# Altium footprint library UWRT_Footprint_Library_2020.PcbLib: 80 footprints (part 5 of 5)
Each footprint in its own frame and in the unit in brackets; x right, y up, seen from the top. Pads: shape width x height; smd on the part's side, far side on the other; paste and mask are expansions set on the pad; w line width, h text height; cw(c..) or ccw(c..) is an arc to the next point about the centre after c.
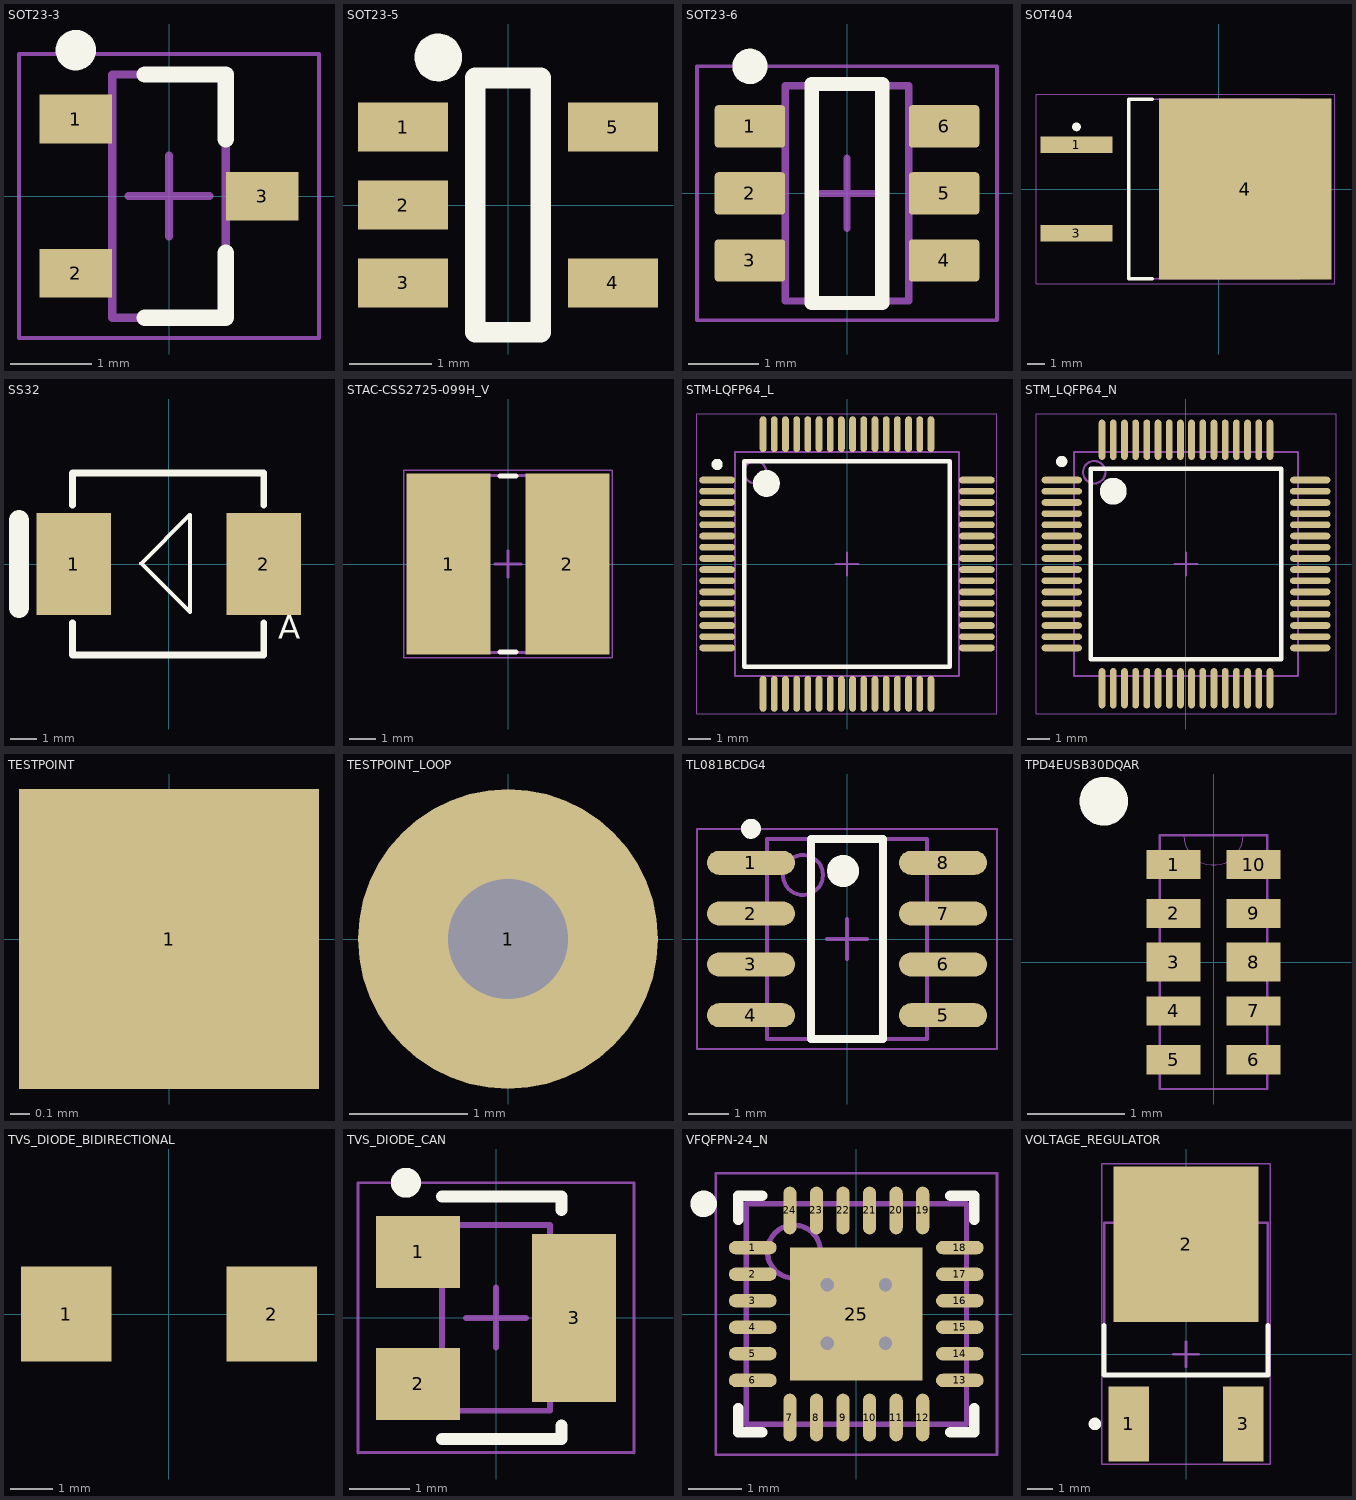
[diagram p4: the footprints below, top view; thin cyan lines are the x and y axes]

## SOT23-3 [mm] "SOT23, 3-Leads, Body 2.90x2.30mm, Pitch 0.95mm, IPC Medium Density"
height 1.1
pads (3):
  rect 0.9x0.6 smd: 1(-1.15,0.95) 2(-1.15,-0.95) 3(1.15,0)
Top Overlay:
  circle w0.25: c-1.15,1.8 r0.125
  lines w0.2: -0.3,-1.5 0.7,-1.5 0.7,-0.7 ; -0.3,1.5 0.7,1.5 0.7,0.7
Mechanical 13:
  lines w0.1: -0.7,-1.5 0.7,-1.5 0.7,1.5 -0.7,1.5 -0.7,-1.5
Mechanical 15:
  lines w0.05: -1.85,-1.75 1.85,-1.75 1.85,1.75 -1.85,1.75 -1.85,-1.75
  lines w0.1: -0.5,0 0.5,0 ; 0,-0.5 0,0.5
3D body "SOT95P230X110-3N.step": height 1.1, standoff 0, extent -1.3,-1.5 1.3,1.5

## SOT23-5 [mm]
pads (5):
  rect 1.1x0.6 smd: 1(-1.279,0.95) 2(-1.279,0) 3(-1.279,-0.95) 4(1.279,-0.95) 5(1.279,0.95)
Top Overlay:
  circle w0.3: c-0.85,1.8 r0.141
  lines w0.254: -0.4,-1.55 -0.4,1.55 0.4,1.55 0.4,-1.55 -0.4,-1.55
3D body "SN74AHC1G02DBVT.stp": height 1.2, standoff 0, extent -1.4,-1.45 1.4,1.45

## SOT23-6 [mm] "SOT23, 6-Leads, Body 3.05x1.75mm, Pitch 0.95mm, IPC Medium Density"
height 1.1
pads (6):
  rrect17% 1x0.6 smd: 1(-1.375,0.95) 2(-1.375,0) 3(-1.375,-0.95) 4(1.375,-0.95) 5(1.375,0) 6(1.375,0.95)
Top Overlay:
  circle w0.25: c-1.375,1.8 r0.125
  lines w0.2: -0.5,-1.55 0.5,-1.55 0.5,1.55 -0.5,1.55 -0.5,-1.55
Mechanical 13:
  lines w0.1: -0.875,-1.525 -0.875,1.525 0.875,1.525 0.875,-1.525 -0.875,-1.525
Mechanical 15:
  lines w0.05: -2.125,-1.8 -2.125,1.8 2.125,1.8 2.125,-1.8 -2.125,-1.8
  lines w0.1: -0.5,0 0.5,0 ; 0,-0.5 0,0.5
3D body "DDC0006A.stp": height 0.9, standoff -0.02, extent -1.434,-1.485 1.434,1.485

## SOT404 [mm]
pads (3):
  rect 4.15x0.95 smd: 1(-8.155,2.54) 3(-8.155,-2.54)
  rect 9.9x10.4 smd: 4(1.545,0)
Top Overlay:
  circle w0.25: c-8.155,3.565 r0.125
  lines w0.2: -3.805,-5.15 -5.155,-5.15 -5.155,5.15 -3.805,5.15
Mechanical 13:
  lines w0.1: -5.155,-5.15 4.645,-5.15 4.645,5.15 -5.155,5.15 -5.155,-5.15
Mechanical 15:
  lines w0.05: -10.48,-5.45 6.67,-5.45 6.67,5.45 -10.48,5.45 -10.48,-5.45
  lines w0.1: -2.405,0 -1.405,0 ; -1.905,-0.5 -1.905,0.5
3D body: height 4.5, standoff 0, extent -5.155,-5.15 4.645,5.15

## SS32 [mm] "Schottky Diode"
pads (2):
  rect 2.794x3.81 smd: 1(-3.555,0) 2(3.555,0)
Top Overlay:
  lines w0.154: 0.783,-1.783 -1.025,0.025 0.783,1.833 ; 0.8,-1.8 0.8,1.83
  lines w0.254: -3.6,-2.2 -3.6,-3.4 3.555,-3.4 3.555,-2.2 ; -3.6,2.2 -3.6,3.4 3.555,3.4 3.555,2.2
  lines w0.754: -5.6,-1.65 -5.6,1.65
  text "A" at 4.1,-3.1 h1.52
Mechanical 1:
  region: -5.25,-1.65
  region: -5.25,3
3D body: height 0.25, standoff 0, extent -3.75,3.15 -3.75,3.15
3D body: height 2.41, standoff 0, extent -3.6,-3.4 3.555,3.4

## STAC-CSS2725-099H_V [mm] "Chip Resistor, 2-Leads, Body 7.06x6.7mm"
height 1.24
pads (2):
  rect 3.18x6.86 smd: 1(-2.25,0) 2(2.25,0)
Top Overlay:
  lines w0.2: -0.3,-3.33 0.3,-3.33 ; -0.3,3.33 0.3,3.33
Mechanical 13:
  lines w0.1: -3.53,-3.35 3.53,-3.35 3.53,3.35 -3.53,3.35 -3.53,-3.35
Mechanical 15:
  lines w0.05: -3.95,-3.55 3.95,-3.55 3.95,3.55 -3.95,3.55 -3.95,-3.55
  lines w0.1: -0.5,0 0.5,0 ; 0,-0.5 0,0.5
3D body "RESC6865X12L.step": height 1.24, standoff 0, extent -3.53,-3.35 3.53,3.35

## STM-LQFP64_L [mm] "QFP, 64-Leads, Body 10x10mm, Pitch 0.5mm, IPC High Density"
height 1.6
pads (64):
  oval 1.6x0.3 smd: 1(-5.8,3.75) 2(-5.8,3.25) 3(-5.8,2.75) 4(-5.8,2.25) 5(-5.8,1.75) 6(-5.8,1.25) 7(-5.8,0.75) 8(-5.8,0.25) 9(-5.8,-0.25) 10(-5.8,-0.75) 11(-5.8,-1.25) 12(-5.8,-1.75) 13(-5.8,-2.25) 14(-5.8,-2.75) 15(-5.8,-3.25) 16(-5.8,-3.75) 33(5.8,-3.75) 34(5.8,-3.25) 35(5.8,-2.75) 36(5.8,-2.25) 37(5.8,-1.75) 38(5.8,-1.25) 39(5.8,-0.75) 40(5.8,-0.25) 41(5.8,0.25) 42(5.8,0.75) 43(5.8,1.25) 44(5.8,1.75) 45(5.8,2.25) 46(5.8,2.75) 47(5.8,3.25) 48(5.8,3.75)
  oval 0.3x1.6 smd: 17(-3.75,-5.8) 18(-3.25,-5.8) 19(-2.75,-5.8) 20(-2.25,-5.8) 21(-1.75,-5.8) 22(-1.25,-5.8) 23(-0.75,-5.8) 24(-0.25,-5.8) 25(0.25,-5.8) 26(0.75,-5.8) 27(1.25,-5.8) 28(1.75,-5.8) 29(2.25,-5.8) 30(2.75,-5.8) 31(3.25,-5.8) 32(3.75,-5.8) 49(3.75,5.8) 50(3.25,5.8) 51(2.75,5.8) 52(2.25,5.8) 53(1.75,5.8) 54(1.25,5.8) 55(0.75,5.8) 56(0.25,5.8) 57(-0.25,5.8) 58(-0.75,5.8) 59(-1.25,5.8) 60(-1.75,5.8) 61(-2.25,5.8) 62(-2.75,5.8) 63(-3.25,5.8) 64(-3.75,5.8)
Top Overlay:
  circle w0.6: c-3.6,3.6 r0.3
  circle w0.25: c-5.8,4.45 r0.125
  lines w0.2: -4.6,-4.6 4.6,-4.6 4.6,4.6 -4.6,4.6 -4.6,-4.6
Mechanical 13:
  circle w0.1: c-4.1,4.1 r0.5
  lines w0.1: -5,-5 5,-5 5,5 -5,5 -5,-5
Mechanical 15:
  lines w0.05: -6.7,-6.7 6.7,-6.7 6.7,6.7 -6.7,6.7 -6.7,-6.7
  lines w0.1: -0.5,0 0.5,0 ; 0,-0.5 0,0.5
3D body: height 1.6, standoff 0.05, extent -5,-5 5,5

## STM_LQFP64_N [mm] "Thin QFP, 64-Leads, Body 10x10mm, Pitch 0.5mm, IPC Medium Density"
height 1.6
pads (64):
  oval 1.8x0.3 smd mask+0.05: 1(-5.55,3.75) 2(-5.55,3.25) 3(-5.55,2.75) 4(-5.55,2.25) 5(-5.55,1.75) 6(-5.55,1.25) 7(-5.55,0.75) 8(-5.55,0.25) 9(-5.55,-0.25) 10(-5.55,-0.75) 11(-5.55,-1.25) 12(-5.55,-1.75) 13(-5.55,-2.25) 14(-5.55,-2.75) 15(-5.55,-3.25) 16(-5.55,-3.75) 33(5.55,-3.75) 34(5.55,-3.25) 35(5.55,-2.75) 36(5.55,-2.25) 37(5.55,-1.75) 38(5.55,-1.25) 39(5.55,-0.75) 40(5.55,-0.25) 41(5.55,0.25) 42(5.55,0.75) 43(5.55,1.25) 44(5.55,1.75) 45(5.55,2.25) 46(5.55,2.75) 47(5.55,3.25) 48(5.55,3.75)
  oval 0.3x1.8 smd mask+0.05: 17(-3.75,-5.55) 18(-3.25,-5.55) 19(-2.75,-5.55) 20(-2.25,-5.55) 21(-1.75,-5.55) 22(-1.25,-5.55) 23(-0.75,-5.55) 24(-0.25,-5.55) 25(0.25,-5.55) 26(0.75,-5.55) 27(1.25,-5.55) 28(1.75,-5.55) 29(2.25,-5.55) 30(2.75,-5.55) 31(3.25,-5.55) 32(3.75,-5.55) 49(3.75,5.55) 50(3.25,5.55) 51(2.75,5.55) 52(2.25,5.55) 53(1.75,5.55) 54(1.25,5.55) 55(0.75,5.55) 56(0.25,5.55) 57(-0.25,5.55) 58(-0.75,5.55) 59(-1.25,5.55) 60(-1.75,5.55) 61(-2.25,5.55) 62(-2.75,5.55) 63(-3.25,5.55) 64(-3.75,5.55)
Top Overlay:
  circle w0.25: c-5.55,4.577 r0.125
  circle w0.6: c-3.25,3.25 r0.3
  lines w0.2: -4.25,-4.25 -4.25,4.25 4.25,4.25 4.25,-4.25 -4.25,-4.25
Mechanical 13:
  circle w0.1: c-4.1,4.1 r0.5
  lines w0.1: -5,-5 -5,5 5,5 5,-5 -5,-5
Mechanical 15:
  lines w0.05: -6.7,-6.7 -6.7,6.7 6.7,6.7 6.7,-6.7 -6.7,-6.7
  lines w0.1: -0.5,0 0.5,0 ; 0,-0.5 0,0.5
3D body: height 1.6, standoff 0, extent -5,-5 5,5

## TESTPOINT [mil]
pads (1):
  rect 60x60 smd: 1(0,0)

## TESTPOINT_LOOP [mm]
pads (1):
  round 2.54 hole 1.02: 1(0,0)
3D body "User Library-Test Point Keystone - 5002 WHITE.STEP": height 4.57, standoff -3.05, extent -1.27,-1.27 1.27,1.27

## TL081BCDG4 [mm]
pads (8):
  oval 2.2x0.6 smd: 1(-2.4,1.905) 2(-2.4,0.635) 3(-2.4,-0.635) 4(-2.4,-1.905) 5(2.4,-1.905) 6(2.4,-0.635) 7(2.4,0.635) 8(2.4,1.905)
Top Overlay:
  circle w0.4: c-0.1,1.7 r0.2
  circle w0.25: c-2.4,2.755 r0.125
  lines w0.2: -0.9,-2.5 0.9,-2.5 0.9,2.5 -0.9,2.5 -0.9,-2.5
Mechanical 13:
  circle w0.1: c-1.1,1.6 r0.5
  lines w0.1: -2,-2.5 2,-2.5 2,2.5 -2,2.5 -2,-2.5
Mechanical 15:
  lines w0.05: -3.75,-2.75 3.75,-2.75 3.75,2.75 -3.75,2.75 -3.75,-2.75
  lines w0.1: -0.5,0 0.5,0 ; 0,-0.5 0,0.5
3D body: height 1.75, standoff 0.1, extent -2,-2.5 2,2.5

## TPD4EUSB30DQAR [mm] "USON-10"
height 0.55
pads (10):
  rect 0.55x0.3 smd paste-0.15 mask+0.05: 1(-0.41,1) 2(-0.41,0.5) 4(-0.41,-0.5) 5(-0.41,-1) 6(0.41,-1) 7(0.41,-0.5) 9(0.41,0.5) 10(0.41,1)
  rect 0.55x0.4 smd paste+0 mask+0.05: 3(-0.41,0) 8(0.41,0)
Top Overlay:
  circle w0.25: c-1.125,1.65 r0.125
Mechanical 13:
  lines w0: -0.305,1.3 ccw(c0,1.3) 0.305,1.3
  lines w0.025: -0.55,-1.3 0.55,-1.3 0.55,1.3 -0.55,1.3 -0.55,-1.3
3D body: height 0.25, standoff 0, extent 0,0 0.254,0.254
3D body "DQA10.step": height 0.55, standoff 0, extent -0.55,-1.3 0.55,1.3

## TVS_DIODE_BIDIRECTIONAL [mm]
pads (2):
  rect 2.16x2.26 smd: 1(-2.45,0) 2(2.45,0)
3D body "User Library-DO-214AA SMB.STEP": height 2.27, standoff -0.03, extent -2.7,-1.8 2.7,1.8

## TVS_DIODE_CAN [mm] "SOT23, 3-Leads, Body 2.95x2.80mm, Pitch 0.95mm, IPC Low Density"
height 1.25
pads (3):
  rect 1.4x1.2 smd: 1(-1.3,1.1) 2(-1.3,-1.1)
  rect 1.4x2.8 smd: 3(1.3,0)
Top Overlay:
  circle w0.25: c-1.5,2.25 r0.125
  lines w0.2: -0.9,-2.02 1.09,-2.02 1.09,-1.8 ; -0.9,2.02 1.09,2.02 1.09,1.8
Mechanical 13:
  lines w0.1: -0.9,-1.55 0.9,-1.55 0.9,1.55 -0.9,1.55 -0.9,-1.55
Mechanical 15:
  lines w0.05: -2.3,-2.25 2.3,-2.25 2.3,2.25 -2.3,2.25 -2.3,-2.25
  lines w0.1: -0.5,0 0.5,0 ; 0,-0.5 0,0.5
3D body "SOT95P280X125-3M.step": height 1.25, standoff 0, extent -1.5,-1.55 1.5,1.55

## VFQFPN-24_N [mm] "QFN, 24-Leads, Body 4x4mm, Pitch 0.5mm, Thermal Pad 2.5x2.5mm, IPC Medium Density"
height 1
pads (25):
  oval 0.9x0.25 smd: 1(-1.95,1.25) 2(-1.95,0.75) 3(-1.95,0.25) 4(-1.95,-0.25) 5(-1.95,-0.75) 6(-1.95,-1.25) 13(1.95,-1.25) 14(1.95,-0.75) 15(1.95,-0.25) 16(1.95,0.25) 17(1.95,0.75) 18(1.95,1.25)
  oval 0.25x0.9 smd: 7(-1.25,-1.95) 8(-0.75,-1.95) 9(-0.25,-1.95) 10(0.25,-1.95) 11(0.75,-1.95) 12(1.25,-1.95) 19(1.25,1.95) 20(0.75,1.95) 21(0.25,1.95) 22(-0.25,1.95) 23(-0.75,1.95) 24(-1.25,1.95)
  rect 2.5x2.5 smd: 25(0,0)
via -0.55,0.55 diameter 0.508 hole 0.254
via 0.55,0.55 diameter 0.508 hole 0.254
via -0.55,-0.55 diameter 0.508 hole 0.254
via 0.55,-0.55 diameter 0.508 hole 0.254
Top Overlay:
  circle w0.25: c-2.875,2.075 r0.125
  lines w0.2: -2.225,-1.775 -2.225,-2.225 -1.775,-2.225 ; -2.225,1.775 -2.225,2.225 -1.775,2.225 ; 1.775,-2.225 2.225,-2.225 2.225,-1.775 ; 1.775,2.225 2.225,2.225 2.225,1.775
Mechanical 13:
  circle w0.1: c-1.175,1.175 r0.5
  lines w0.1: -2.075,-2.075 -2.075,2.075 2.075,2.075 2.075,-2.075 -2.075,-2.075
Mechanical 15:
  lines w0.05: -2.65,-2.65 -2.65,2.65 2.65,2.65 2.65,-2.65 -2.65,-2.65
  lines w0.1: -0.5,0 0.5,0 ; 0,-0.5 0,0.5
3D body: height 1, standoff 0, extent -2.075,-2.075 2.075,2.075

## VOLTAGE_REGULATOR [mm] "DPAK, 3-Leads, Body 6.095x6.54mm, Pitch 4.57mm"
height 2.38
pads (3):
  rect 1.6x3 smd: 1(-2.285,-2.79) 3(2.285,-2.79)
  rect 5.8x6.2 smd: 2(0,4.39)
Top Overlay:
  circle w0.25: c-3.635,-2.79 r0.125
  lines w0.2: -3.27,1.137 -3.27,-0.845 3.27,-0.845 3.27,1.137
Mechanical 13:
  lines w0.1: -3.27,-0.845 3.27,-0.845 3.27,5.25 -3.27,5.25 -3.27,-0.845
Mechanical 15:
  lines w0.05: -3.37,-4.39 -3.37,7.59 3.37,7.59 3.37,-4.39 -3.37,-4.39
  lines w0.1: -0.5,0 0.5,0 ; 0,-0.5 0,0.5
3D body: height 2.38, standoff 0, extent -3.27,-0.845 3.27,5.25